# Altium footprint library TFTLCD_2.4_2.PcbLib: 1 footprints
Each footprint in its own frame and in the unit in brackets; x right, y up, seen from the top. Pads: shape width x height; smd on the part's side, far side on the other; paste and mask are expansions set on the pad; w line width, h text height; cw(c..) or ccw(c..) is an arc to the next point about the centre after c.
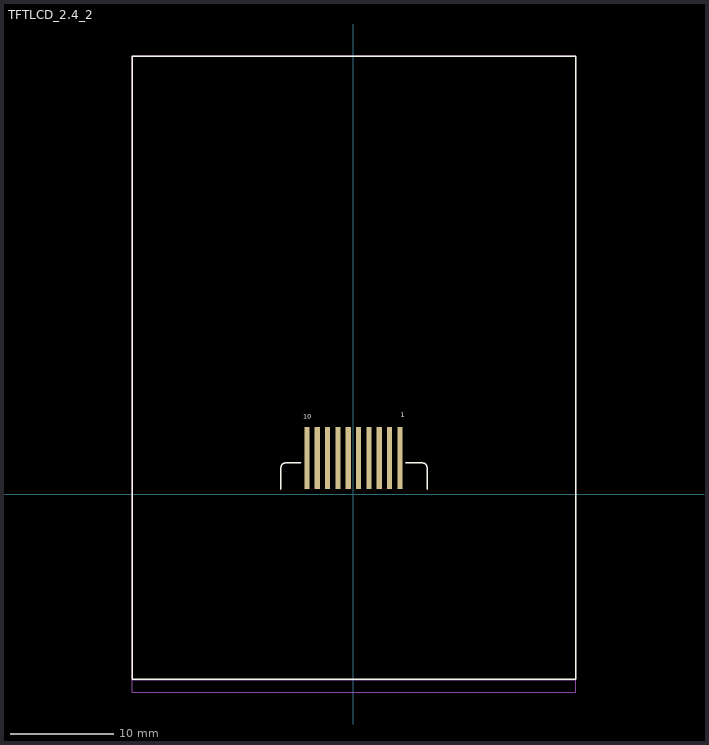
[diagram p0: the footprint, top view; thin cyan lines are the x and y axes]

## TFTLCD_2.4_2 [mm] "Pitch1mm Body62.26X42.72mm High 2.45mm"
height 2.45
pads (10):
  rect 0.5x6 smd: 1(4.5,3.5) 2(3.5,3.5) 3(2.5,3.5) 4(1.5,3.5) 5(0.5,3.5) 6(-0.5,3.5) 7(-1.5,3.5) 8(-2.5,3.5) 9(-3.5,3.5) 10(-4.5,3.5)
Top Overlay:
  lines w0.152: -7.021,0.508 -7.021,2.548 ; -7.02,2.548 cw(c-6.52,2.548) -6.52,3.048 -5.076,3.048 ; 5.076,3.048 6.633,3.048 cw(c6.633,2.548) 7.133,2.548 ; 7.131,0.508 7.131,2.548 ; -21.37,-17.89 21.518,-17.89 21.518,42.38 -21.37,42.38 -21.37,-17.89
  text "1" at 4.572,7.239 h0.8
  text "10" at -4.826,7.112 h0.8
Mechanical 13:
  lines w0.1: -21.37,-19.137 -21.37,42.38 21.518,42.38 21.518,-19.137 -21.37,-19.137
Mechanical 15:
  lines w0.1: -21.396,-17.916 -21.396,42.406 21.518,42.406 21.518,-17.916 -21.396,-17.916
3D body: height 2.7, standoff -0.05, extent -21.408,-18.832 21.512,42.373